# EAGLE library part POLOLU_GEARMOTOR_ENCODER (library PiB_motors)
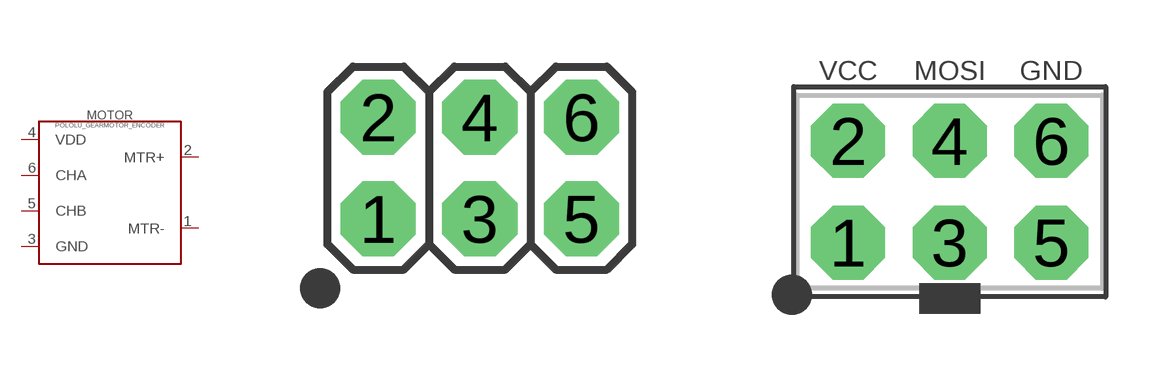
[diagram p2: symbol with the pads of 2X03-VERT-MALE; footprints 2X03-VERT-MALE, HDRV6W64P254_2X3_762X483X838B_AVR-ISP]

Designator prefix MOTOR

## POLOLU_GEARMOTOR_ENCODER_30:1_6V_12-CPR (DATASHEET: https://www.pololu.com/product/2212/specs; DATASHEET_CONNECTOR: https://cdn.amphenol-icc.com/media/wysiwyg/files/drawing/67996.pdf; DATASHEET_ENCODER: https://www.pololu.com/product/3081/specs; DIST: Pololu; DISTLINK: https://www.pololu.com/product/2212; DISTLINK_CABLE: https://www.pololu.com/product/972; DISTLINK_CONNECTOR: https://www.digikey.com/products/en?keywords=609-3234-ND; DISTLINK_CONNECTOR-FEMALE: https://www.pololu.com/product/855; DISTLINK_ENCODER: https://www.pololu.com/product/3081; DISTPN: 2212; DISTPN_CABLE: 972; DISTPN_CONNECTOR: 609-3234-ND; DISTPN_CONNECTOR-FEMALE: 855; DISTPN_ENCODER: 3081; DIST_CABLE: Pololu; DIST_CONNECTOR: Digikey; DIST_CONNECTOR-FEMALE: Pololu; DIST_ENCODER: Pololu; MFR: Pololu; MFR_CABLE: Generic; MFR_CONNECTOR: Amphenol FCI; MFR_CONNECTOR-FEMALE: Generic; MFR_ENCODER: Pololu; MPN: 2212; MPN_CABLE: 972; MPN_CONNECTOR: 67997-206HLF; MPN_CONNECTOR-FEMALE: 855; MPN_ENCODER: 3081; VALUE: 6V 30:1 12-CPR)  [2X03-VERT-MALE]
1  MTR-
2  MTR+
3  GND
4  VDD
5  CHB
6  CHA

## POLOLU_GEARMOTOR_ENCODER_30:1_6V_12-CPR_  [HDRV6W64P254_2X3_762X483X838B_AVR-ISP]
Pads as for 2X03-VERT-MALE

## Footprint 2X03-VERT-MALE (pad centres in mm)
drill 1.016 pad 1.88 octagon: 1 -2.54,-1.27; 2 -2.54,1.27; 3 0,-1.27; 4 0,1.27; 5 2.54,-1.27; 6 2.54,1.27

## Footprint HDRV6W64P254_2X3_762X483X838B_AVR-ISP (pad centres in mm)
Double-row, 6-pin Pin Header (Male) Straight, 2.54 mm (0.10 in) row pitch, 2.54 mm (0.10 in) col pitch, 5.84 mm mating length, 7.62 X 4.83 X 8.38 mm body Double-row (2X3), 6-pin Pin Header (Male) Straight package with 2.54 mm (0.10 in) row pitch, 2.54 mm (0.10 in) col pitch, 0.64 mm lead width, 3.05 mm tail length and 5.84 mm mating length with overall size 7.62 X 4.83 X 8.38 mm, pin pattern - clockwise from top left
drill 1 pad 1.85 octagon: 1 -2.54,-1.27; 2 -2.54,1.27; 3 0,-1.27; 4 0,1.27; 5 2.54,-1.27; 6 2.54,1.27